# Altium footprint library TSOP-48.PcbLib: 1 footprints
Each footprint in its own frame and in the unit in brackets; x right, y up, seen from the top. Pads: shape width x height; smd on the part's side, far side on the other; paste and mask are expansions set on the pad; w line width, h text height; cw(c..) or ccw(c..) is an arc to the next point about the centre after c.
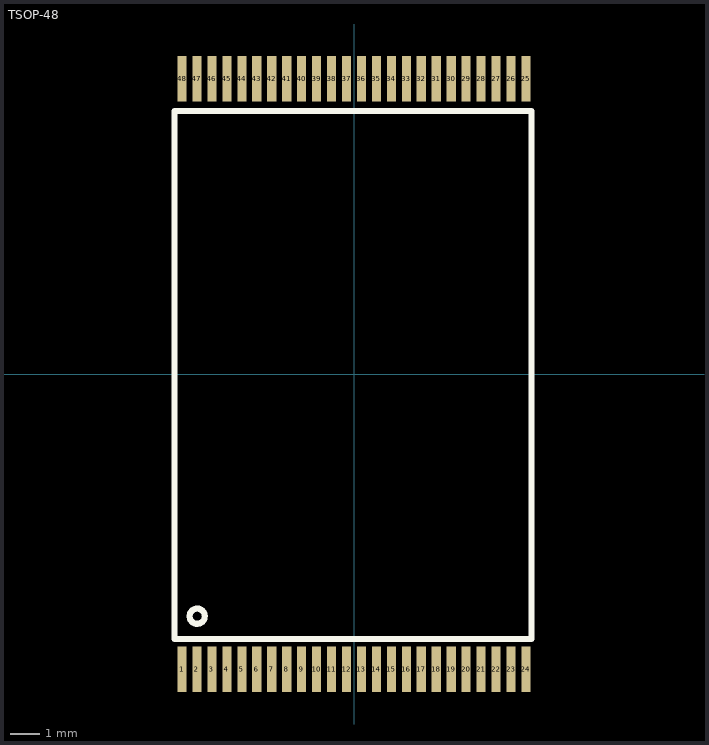
[diagram p0: the footprint, top view; thin cyan lines are the x and y axes]

## TSOP-48 [mm]
pads (48):
  rect 0.305x1.524 smd: 1(-5.75,-9.875) 2(-5.25,-9.875) 3(-4.75,-9.875) 4(-4.25,-9.875) 5(-3.75,-9.875) 6(-3.25,-9.875) 7(-2.75,-9.875) 8(-2.25,-9.875) 9(-1.75,-9.875) 10(-1.25,-9.875) 11(-0.75,-9.875) 12(-0.25,-9.875) 13(0.25,-9.875) 14(0.75,-9.875) 15(1.25,-9.875) 16(1.75,-9.875) 17(2.25,-9.875) 18(2.75,-9.875) 19(3.25,-9.875) 20(3.75,-9.875) 21(4.25,-9.875) 22(4.75,-9.875) 23(5.25,-9.875) 24(5.75,-9.875) 25(5.75,9.875) 26(5.25,9.875) 27(4.75,9.875) 28(4.25,9.875) 29(3.75,9.875) 30(3.25,9.875) 31(2.75,9.875) 32(2.25,9.875) 33(1.75,9.875) 34(1.25,9.875) 35(0.75,9.875) 36(0.25,9.875) 37(-0.25,9.875) 38(-0.75,9.875) 39(-1.25,9.875) 40(-1.75,9.875) 41(-2.25,9.875) 42(-2.75,9.875) 43(-3.25,9.875) 44(-3.75,9.875) 45(-4.25,9.875) 46(-4.75,9.875) 47(-5.25,9.875) 48(-5.75,9.875)
Top Overlay:
  circle w0.203: c-5.242,-8.097 r0.254
  lines w0.203: -6.004,-8.859 5.934,-8.859 5.934,8.794 -6.004,8.794 -6.004,-8.859
3D body: height 1, standoff 0, extent -6.106,-8.961 6.036,8.896